# Altium schematic symbol library CJS-1200TA.SchLib: 1 symbol
Pins are listed as number, name and electrical type; pins without a type are passive.

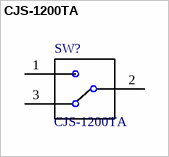
[diagram p0: symbol CJS-1200TA]

## CJS-1200TA
designator SW?
SWITCH SLIDE SPDT 100MA 6V / Manufacturer PN: CJS-1200TA; MF: Nidec Copal; Package: None; Digi-Key_Purchase_URL: https://www.digikey.com/product-detail/en/nidec-copal-electronics/CJS-1200TA/563-1021-1-ND/948401?utm_source=snapeda&utm_medium=aggregator&utm_campaign=symbol; Digi-Key_Part_Number: 563-1021-1-ND; SnapEDA_Link: https://www.snapeda.com/parts/CJS-1200TA/Nidec%20Copal%20Electronics/view-part/?ref=snap; MP: CJS-1200TA; Value: *
footprint CJS-1200TA
pins: 1, 2, 3